# Altium footprint library PCB - RESISTOR - CHIP - RES 1206_3216 CONFIG.PCBLIB: 1 footprints
Each footprint in its own frame and in the unit in brackets; x right, y up, seen from the top. Pads: shape width x height; smd on the part's side, far side on the other; paste and mask are expansions set on the pad; w line width, h text height; cw(c..) or ccw(c..) is an arc to the next point about the centre after c.
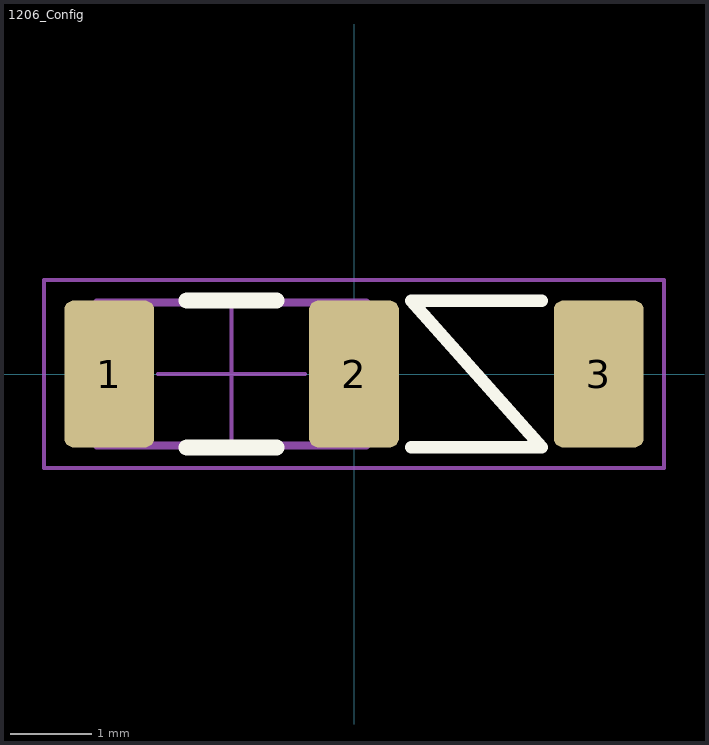
[diagram p0: the footprint, top view; thin cyan lines are the x and y axes]

## 1206_Config [mm] "1206 3-Pin Config Footprint"
height 1
pads (3):
  rrect20% 1.1x1.8 smd: 1(-3,0) 2(0,0) 3(3,0)
Top Overlay:
  lines w0.152: 0.7,-0.9 2.3,-0.9 0.7,0.9 2.3,0.9
  lines w0.2: -2.05,-0.9 -0.95,-0.9 ; -2.05,0.9 -0.95,0.9
M5 Assembly Top:
  lines w0.1: -2.6,-0.875 -2.6,0.875 ; -0.4,-0.875 -0.4,0.875 ; -3.15,-0.875 -1.5,-0.875 0.15,-0.875 0.15,0.875 -3.15,0.875 -3.15,-0.875
  text ".Designator" at -2.3,-0.4 h0.76
Mechanical 15:
  lines w0.05: -2.4,0 -1.5,0 ; -1.5,-0.9 -1.5,0 ; -1.5,0.9 -1.5,0 ; -0.6,0 -1.5,0 ; -3.8,-1.15 -1.5,-1.15 3.8,-1.15 3.8,1.15 -3.8,1.15 -3.8,-1.15
3D body: height 2.8, standoff -2.8, extent -1.537,1.357 -1.537,1.357
3D body "RESC3216X06N.STEP": height 0.55, standoff 0, extent -3.1,-0.8 0.1,0.8